# EAGLE library part 74LVC1G57DW-7 (library pimoroni-ics)
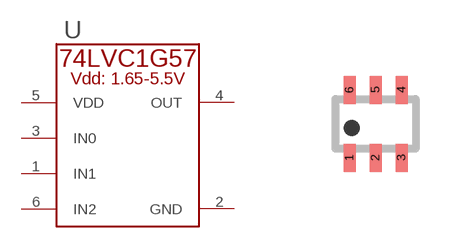
[diagram p136: symbol with the pads of SOT363_INFINEON; footprint SOT363_INFINEON]

Designator prefix U

## 74LVC1G57DW-7  [SOT363_INFINEON]
1  IN1
2  GND
3  IN0
4  OUT
5  VDD
6  IN2

## Footprint SOT363_INFINEON (pad centres in mm)
Small Outline Transistor; 6 leads Reflow soldering INFINEON, www.infineon.com/cmc_upload/0/000/010/257/eh_db_5b.pdf
smd 0.3 x 0.7: 1 -0.65,-0.85; 2 0,-0.85; 3 0.65,-0.85; 4 0.65,0.85; 5 0,0.85; 6 -0.65,0.85